# EAGLE library part AX5031 (library watchplb)
AX5031 RF Transmitter 400-470MHz 800-940MHz
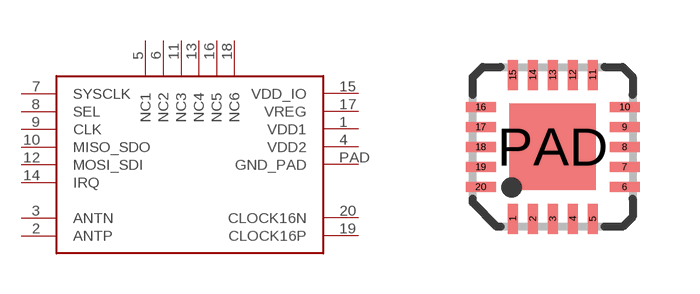
[diagram p2: symbol with the pads of QFN20; footprint QFN20]

Designator prefix -

## AX5031  [QFN20]
1  VDD1  pwr
2  ANTP  out
3  ANTN  out
4  VDD2  pwr
5  NC1  nc
6  NC2  nc
7  SYSCLK  out
8  SEL  in
9  CLK  in
10  MISO_SDO  out
11  NC3  nc
12  MOSI_SDI  in
13  NC4  nc
14  IRQ  out
15  VDD_IO  pwr
16  NC5  nc
17  VREG  pwr
18  NC6  nc
19  CLOCK16P
20  CLOCK16N
PAD  GND_PAD  pwr

## Footprint QFN20 (pad centres in mm)
QFN20 4x4 mm, pitch 0.5 mm
smd 0.25 x 0.75: 1 -1,-1.8; 2 -0.5,-1.8; 3 0,-1.8; 4 0.5,-1.8; 5 1,-1.8; 11 1,1.8; 12 0.5,1.8; 13 0,1.8; 14 -0.5,1.8; 15 -1,1.8
smd 0.75 x 0.25: 6 1.8,-1; 7 1.8,-0.5; 8 1.8,0; 9 1.8,0.5; 10 1.8,1; 16 -1.8,1; 17 -1.8,0.5; 18 -1.8,0; 19 -1.8,-0.5; 20 -1.8,-1
smd 2.15 x 2.15: PAD 0,0